# EAGLE library part AD8277 (library noah)
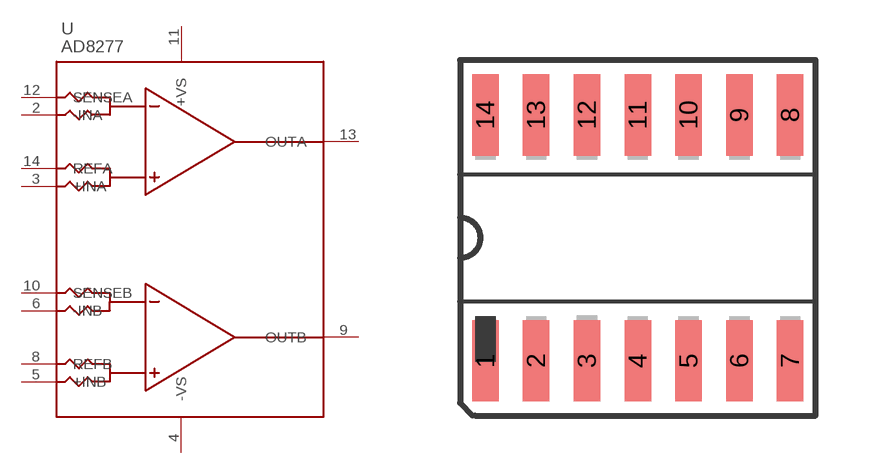
[diagram p20: symbol with the pads of SO14; footprint SO14]

Designator prefix -

## AD8277  [SO14]
2  -INA
3  +INA
4  -VS
5  +INB
6  -INB
8  REFB
9  OUTB
10  SENSEB
11  +VS
12  SENSEA
13  OUTA
14  REFA

## Footprint SO14 (pad centres in mm)
Small Outline package 150 mil
smd 0.66 x 2.032: 1 -3.81,-3.073; 2 -2.54,-3.073; 3 -1.27,-3.073; 4 0,-3.073; 5 1.27,-3.073; 6 2.54,-3.073; 7 3.81,-3.073; 8 3.81,3.073; 9 2.54,3.073; 10 1.27,3.073; 11 0,3.073; 12 -1.27,3.073; 13 -2.54,3.073; 14 -3.81,3.073